# EAGLE library part LM8262ALT (library _RoweTel)
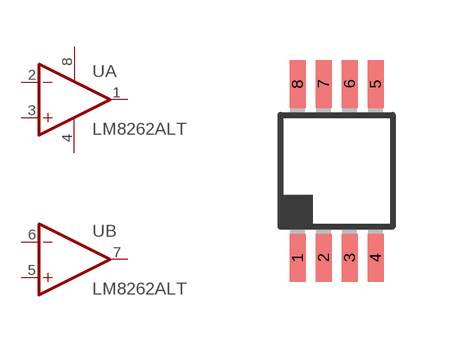
[diagram p32: symbol with the pads of MSOP-8; footprint MSOP-8]

Designator prefix U; gates A=LM8262A B=LM8262B

## LM8262ALT  [MSOP-8]
1  A:1  out
2  A:2  in
3  A:3  in
4  A:4  sup
5  B:5  in
6  B:6  in
7  B:7  out
8  A:8  sup

## Footprint MSOP-8 (pad centres in mm)
smd 0.4 x 1.2: 1 -0.975,-2.175; 2 -0.325,-2.175; 3 0.325,-2.175; 4 0.975,-2.175; 5 0.975,2.175; 6 0.325,2.175; 7 -0.325,2.175; 8 -0.975,2.175